# Altium footprint library dev.PcbLib: 112 footprints (part 7 of 7)
Each footprint in its own frame and in the unit in brackets; x right, y up, seen from the top. Pads: shape width x height; smd on the part's side, far side on the other; paste and mask are expansions set on the pad; w line width, h text height; cw(c..) or ccw(c..) is an arc to the next point about the centre after c.
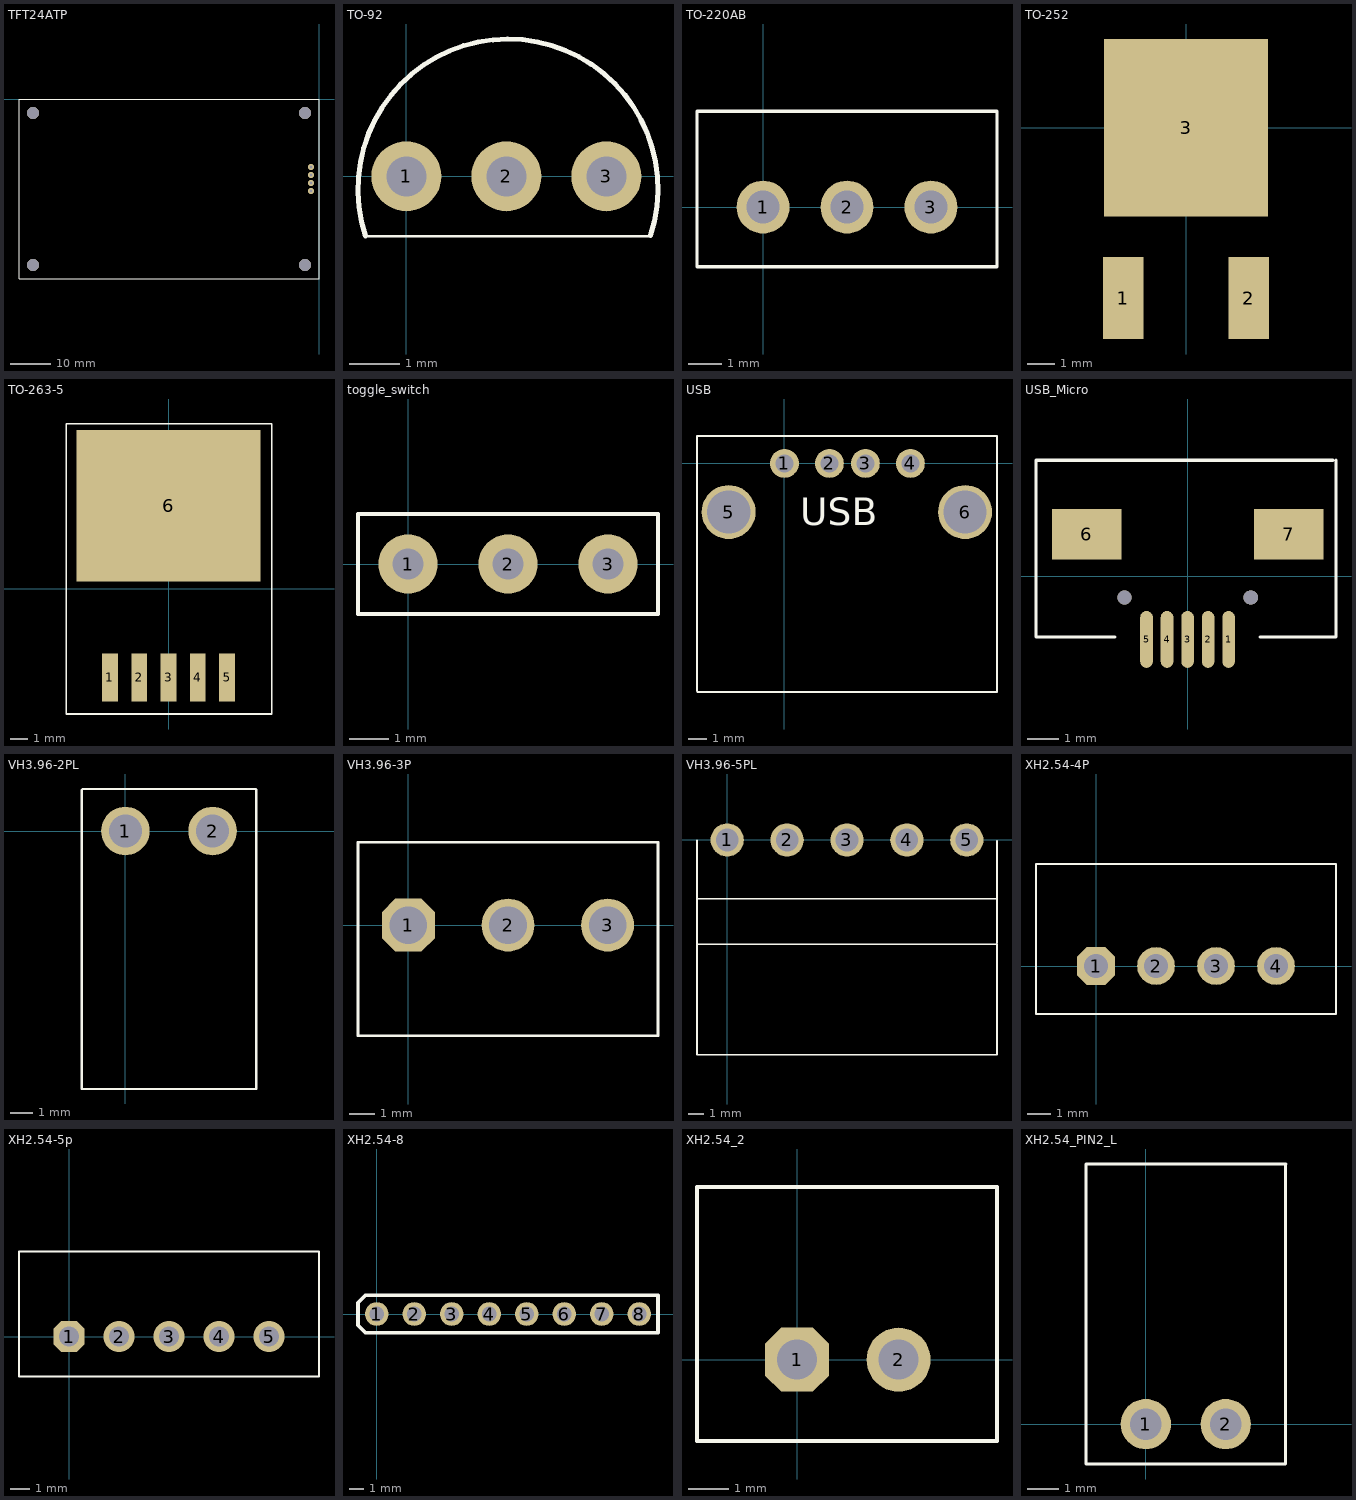
[diagram p6: the footprints below, top view; thin cyan lines are the x and y axes]

## TFT24ATP [mm]
pads (4):
  round 1.5 hole 0.8: 1(-2,-17) 2(-2,-19) 3(-2,-21) 4(-2,-23)
via -71.5,-3.5 diameter 3 hole 3
via -71.5,-41.5 diameter 3 hole 3
via -3.5,-3.5 diameter 3 hole 3
via -3.5,-41.5 diameter 3 hole 3
Top Overlay:
  lines w0.1: -75,-45 -75,0 0,0 0,-45 -75,-45

## TO-92 [mm]
pads (3):
  round 1.4 hole 0.8: 1(0,0) 2(2,0) 3(4,0)
Top Overlay:
  lines w0.05: -0.817,-1.195 4.844,-1.195
  lines w0.1: -0.817,-1.195 cw(c2.032,-0.254) 4.885,-1.182

## TO-220AB [mm]
pads (3):
  round 1.6 hole 1: 1(0,0) 2(2.54,0) 3(5.08,0)
Top Overlay:
  lines w0.1: -2,-1.8 7.08,-1.8 7.08,2.9 -2,2.9 -2,-1.8

## TO-252 [mm]
pads (3):
  rect 1.5x3 smd: 1(-2.3,-6.25) 2(2.3,-6.25)
  rect 6x6.5 smd: 3(0,0)

## TO-263-5 [mm]
pads (6):
  rect 0.91x2.8 smd: 1(-3.4,-5.138) 2(-1.7,-5.138) 3(0,-5.138) 4(1.7,-5.138) 5(3.4,-5.138)
  rect 10.668x8.8 smd: 6(0,4.826)
Top Overlay:
  lines w0.1: -5.94,-7.264 5.994,-7.264 5.994,9.601 -5.94,9.601 -5.94,-7.264

## toggle_switch [mm]
pads (3):
  round 1.5 hole 0.8: 1(0,0) 2(2.54,0) 3(5.08,0)
Top Overlay:
  lines w0.1: -1.27,-1.27 6.35,-1.27 6.35,1.27 -1.27,1.27 -1.27,-1.27

## USB [mm]
pads (6):
  round 1.6 hole 1: 1(0,0) 2(2.5,0) 3(4.5,0) 4(7,0)
  round 3 hole 2.4: 5(-3.1,-2.7) 6(10.04,-2.7)
Top Overlay:
  lines w0.1: -4.862,-12.664 -4.826,-12.7 11.811,-12.7 11.811,1.524 -4.862,1.524 -4.862,-12.664
  text "USB" at 0.889,-3.429 h1.52

## USB_Micro [mm]
pads (7):
  oval 0.4x1.8 smd: 1(1.3,-2) 2(0.65,-2) 3(0,-2) 4(-0.65,-2) 5(-1.3,-2)
  rect 2.2x1.6 smd: 6(-3.2,1.325) 7(3.2,1.325)
via -2,-0.675 diameter 0.45 hole 0.45
via 2,-0.675 diameter 0.45 hole 0.45
Top Overlay:
  lines w0.1: -2.3,-1.925 -2.9,-1.925 ; 2.3,-1.925 2.6,-1.925 ; 4.6,3.675 -4.8,3.675 -4.8,-1.925 -2.9,-1.925 ; 4.7,3.675 4.7,-1.925 2.6,-1.925 ; -2.9,-1.925 -2.9,-1.925 ; 2.6,-1.925 2.6,-1.925

## VH3.96-2PL [mm]
pads (2):
  round 2.2 hole 1.5: 1(0,0) 2(3.96,0)
Top Overlay:
  lines w0.1: -1.27,1.905 5.715,1.905 ; -1.98,-11.7 -1.98,0 -1.98,1.853 -1.928,1.905 5.461,1.905 5.911,1.905 5.94,1.876 5.94,0 5.94,-11.7 -1.98,-11.7

## VH3.96-3P [mm]
pads (3):
  oct 2.1x2.1 hole 1.5: 1(0,0)
  round 2.1 hole 1.5: 2(3.96,0) 3(7.92,0)
Top Overlay:
  lines w0.1: -2,-4.4 -2,3.3 9.92,3.3 9.92,-4.4 -2,-4.4

## VH3.96-5PL [mm]
pads (5):
  round 2.2 hole 1.5: 1(0,0) 2(3.96,0) 3(7.92,0) 4(11.88,0) 5(15.84,0)
Top Overlay:
  lines w0.1: -2,-0.032 -2,-3.9 ; 17.84,-6.84 17.84,-3.9 ; 17.84,-0.06 17.84,-3.9 ; -2,-6.9 -2,-3.9 ; -2,-6.9 17.84,-6.9 17.84,-14.2 -2,-14.2 -2,-6.9 ; -2,-3.9 17.84,-3.9

## XH2.54-4P [mm]
pads (4):
  oct 1.6x1.6 hole 1: 1(0,0)
  round 1.6 hole 1: 2(2.54,0) 3(5.08,0) 4(7.62,0)
Top Overlay:
  lines w0.1: -2.54,-2.032 10.16,-2.032 10.16,4.318 -2.54,4.318 -2.54,-2.032

## XH2.54-5p [mm] "XH2.54-5P"
pads (5):
  oct 1.6x1.6 hole 1: 1(0,0)
  round 1.6 hole 1: 2(2.54,0) 3(5.08,0) 4(7.62,0) 5(10.16,0)
Top Overlay:
  lines w0.1: -2.54,-2.032 12.7,-2.032 12.7,4.318 -2.54,4.318 -2.54,-2.032

## XH2.54-8 [mm]
pads (8):
  round 1.6 hole 1: 1(0,0) 2(2.54,0) 3(5.08,0) 4(7.62,0) 5(10.16,0) 6(12.7,0) 7(15.24,0) 8(17.78,0)
Top Overlay:
  lines w0.254: -1.27,-0.762 -1.27,0.508 -1.27,0.762 -0.762,1.27 -0.508,1.27 19.05,1.27 19.05,-1.27 -0.508,-1.27 -0.762,-1.27 -1.27,-0.762

## XH2.54_2 [mm]
pads (2):
  oct 1.6x1.6 hole 1: 1(0,0)
  round 1.6 hole 1: 2(2.54,0)
Top Overlay:
  lines w0.1: -2.5,-2.032 -2.5,4.318 5,4.318 5,-2.032 -2.5,-2.032

## XH2.54_PIN2_L [mm]
pads (2):
  round 1.6 hole 1: 1(0,0) 2(2.54,0)
Top Overlay:
  lines w0.1: 4.445,8.255 4.445,-1.27 -1.905,-1.27 -1.905,1.27 -1.905,8.27 4.46,8.27